# EAGLE library part E5J88-032-01-L (library connector lib)
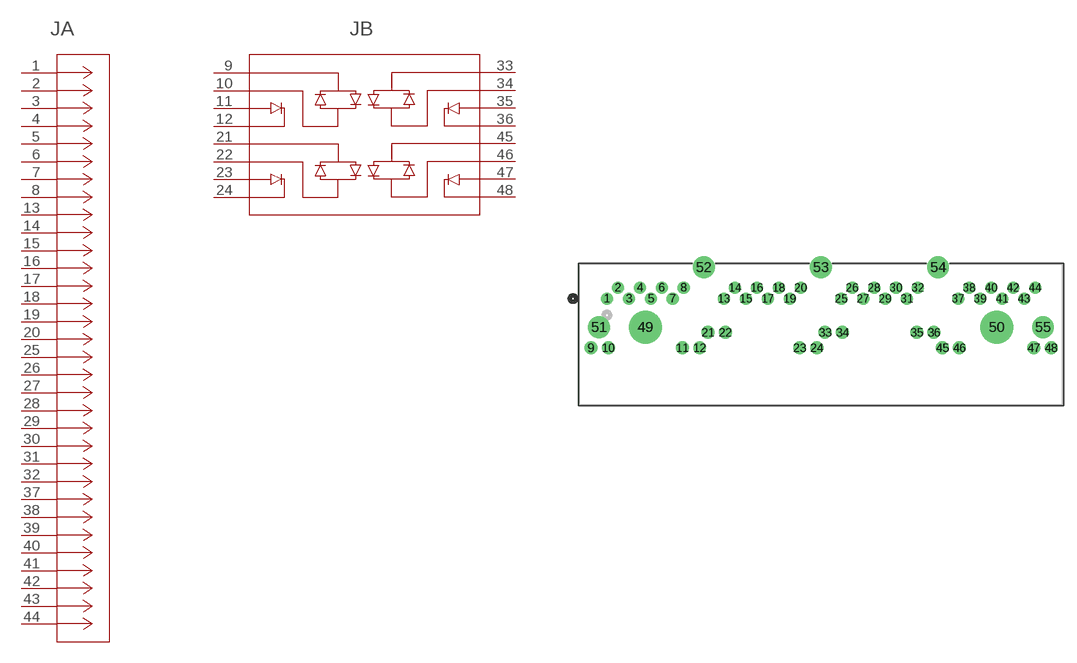
[diagram p0: symbol with the pads of CONN_E5J88-032-01-L_PUL; footprint CONN_E5J88-032-01-L_PUL]

Designator prefix J; gates A=CONN_E5J88-032-01-L_1 B=E5J88-032-01-L_LED

## E5J88-032-01-L (BUILT_BY: EMA_Cory; COPYRIGHT: Copyright (C) 2018 Accelerated Designs. All rights reserved; DATASHEET: https://productfinder.pulseeng.com/doc_type/WEB301/doc_num/E5J88-032-01-L/doc_part/E5J88-032-01-L.pdf; MANUFACTURER_PART_NUMBER: E5J88-032-01-L; SOURCELIBRARY: Pulse_Electronics_Corporation_2020-06-15; VENDOR: Pulse Electronics Corporation)  [CONN_E5J88-032-01-L_PUL]
1  A:1  pas
2  A:2  pas
3  A:3  pas
4  A:4  pas
5  A:5  pas
6  A:6  pas
7  A:7  pas
8  A:8  pas
9  B:9  pas
10  B:10  pas
11  B:11  pas
12  B:12  pas
13  A:13  pas
14  A:14  pas
15  A:15  pas
16  A:16  pas
17  A:17  pas
18  A:18  pas
19  A:19  pas
20  A:20  pas
21  B:21  pas
22  B:22  pas
23  B:23  pas
24  B:24  pas
25  A:25  pas
26  A:26  pas
27  A:27  pas
28  A:28  pas
29  A:29  pas
30  A:30  pas
31  A:31  pas
32  A:32  pas
33  B:33  pas
34  B:34  pas
35  B:35  pas
36  B:36  pas
37  A:37  pas
38  A:38  pas
39  A:39  pas
40  A:40  pas
41  A:41  pas
42  A:42  pas
43  A:43  pas
44  A:44  pas
45  B:45  pas
46  B:46  pas
47  B:47  pas
48  B:48  pas

## Footprint CONN_E5J88-032-01-L_PUL (pad centres in mm)
drill 0.889 pad 1.397: 1 0,0; 2 1.27,1.27; 3 2.54,0; 4 3.81,1.27; 5 5.08,0; 6 6.35,1.27; 7 7.62,0; 8 8.89,1.27; 13 13.564,0; 14 14.834,1.27; 15 16.104,0; 16 17.374,1.27; 17 18.644,0; 18 19.914,1.27; 19 21.184,0; 20 22.454,1.27; 25 27.153,0; 26 28.423,1.27; 27 29.693,0; 28 30.963,1.27; 29 32.233,0; 30 33.503,1.27; 31 34.773,0; 32 36.043,1.27; 37 40.716,0; 38 41.986,1.27; 39 43.256,0; 40 44.526,1.27; 41 45.796,0; 42 47.066,1.27; 43 48.336,0; 44 49.606,1.27
drill 0.991 pad 1.499: 9 -1.854,-5.69; 10 0.152,-5.69; 11 8.738,-5.69; 12 10.744,-5.69; 21 11.709,-3.912; 22 13.716,-3.912; 23 22.327,-5.69; 24 24.308,-5.69; 33 25.273,-3.912; 34 27.28,-3.912; 35 35.89,-3.912; 36 37.897,-3.912; 45 38.862,-5.69; 46 40.843,-5.69; 47 49.454,-5.69; 48 51.46,-5.69
drill 2.794 pad 2.794: 49 4.445,-3.302; 50 45.161,-3.302
drill 1.676 pad 2.184: 51 -0.914,-3.302; 52 11.227,3.632; 53 24.79,3.632; 54 38.379,3.632; 55 50.521,-3.302